# Altium schematic symbol library AON7804.SchLib: 1 symbol
Pins are listed as number, name and electrical type; pins without a type are passive.

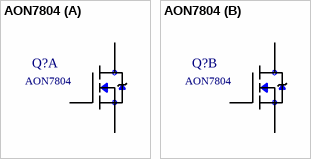
[diagram p0: symbol AON7804]

## AON7804
designator Q?  (value not drawn)
Mosfet 2n-Ch 30v 9a 8dfn; MP: AON7804; MF: Alpha &; SnapEDA_Link: https://www.snapeda.com/parts/AON7804/Alpha%20%26%20Omega%20Semiconductor%20Inc./view-part/?ref=snap; Package: DFN-8 Alpha &amp; Omega Semiconductor; Price: None; Availability: Unavailable; Value: *
footprint DFN3X3_AON7804(Primary)
part A pins: D1 D, D1A D1, G1 G, S1 S
part B pins: D2 D, D2A D1, G2 G, S2 S